# Altium footprint library SON50P160X120X60-4N.PcbLib: 1 footprints
Each footprint in its own frame and in the unit in brackets; x right, y up, seen from the top. Pads: shape width x height; smd on the part's side, far side on the other; paste and mask are expansions set on the pad; w line width, h text height; cw(c..) or ccw(c..) is an arc to the next point about the centre after c.
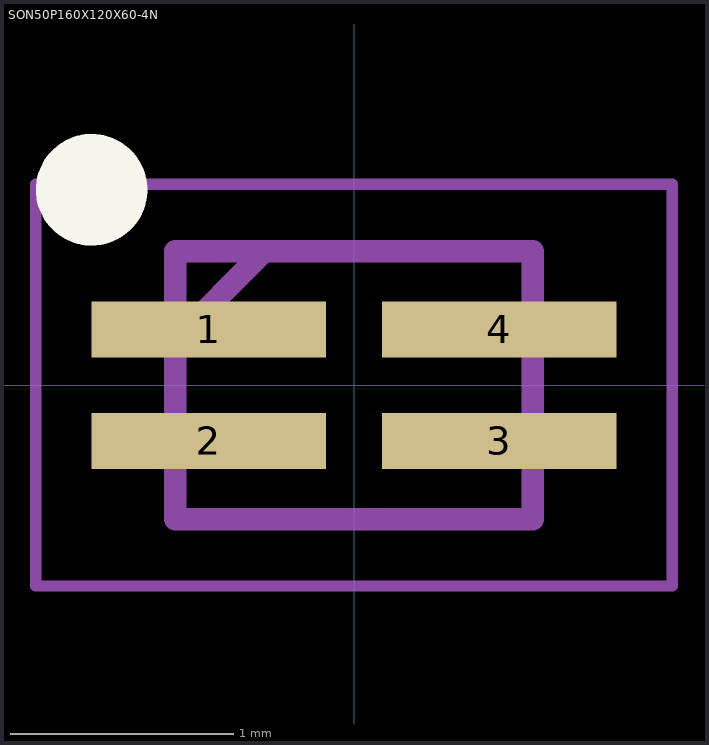
[diagram p0: the footprint, top view; thin cyan lines are the x and y axes]

## SON50P160X120X60-4N [mm]
pads (4):
  rect 1.05x0.25 smd: 1(-0.65,0.25) 2(-0.65,-0.25) 3(0.65,-0.25) 4(0.65,0.25)
Top Overlay:
  circle w0.25: c-1.175,0.875 r0.125
Mechanical 15:
  lines w0.1: -0.8,0.2 -0.4,0.6 ; -0.8,-0.6 0.8,-0.6 0.8,0.6 -0.8,0.6 -0.8,-0.6
Mechanical 20:
  lines w0.05: -1.425,-0.9 1.425,-0.9 1.425,0.9 -1.425,0.9 -1.425,-0.9